# Altium schematic symbol library 776164-1.SchLib: 1 symbol
Pins are listed as number, name and electrical type; pins without a type are passive.

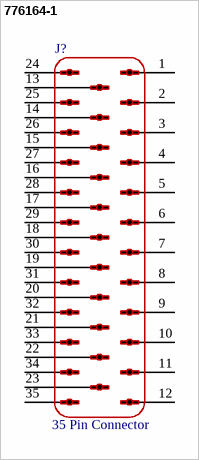
[diagram p0: symbol 776164-1]

## 776164-1
designator J?, comment Type: 35 Pin Connector  (hidden comment: CONN3x12-1)
CONNECTOR; Manufacturer: TE Connectivity; CMW P/N: 776164-1; Value: 12x3-1; Supplier 1 Part Number: 776164-1-ND; HelpURL: http://www.digikey.com/product-search/en?x=0&y=0&lang=en&site=us&KeyWords=776164-1; Manufacturer P/N: 776164-1; Package: PKR/.157/2; Supplier 1: Digi-Key
pins: 1 USB D-, 2 USB ID, 3 DOUT1, 4 DOUT3, 5 FREQ_IN, 6 DIN1, 7 DIN3, 8 ADIN2, 9 ADIN4, 10 Analog_OUT_0-5V, 11 N/C, 12 N/C, 13 USB Shield, 14 CAN-, 15 DOUT2, 16 DOUT4, 17 FREQ_IN_RET, 18 DIN2, 19 ADIN1, 20 ADIN3, 21 AD_GND, 22 Analog_OUT_GND, 23 N/C, 24 USB D+, 25 USB VBUS, 26 CAN+, 27 IGN, 28 BATT+, 29 BATT-, 30 BATT2+, 31 N/C, 32 N/C, 33 N/C, 34 N/C, 35 N/C
1 alternate drawing of the same symbol